# EAGLE library part S10PIN (library jst_eh)
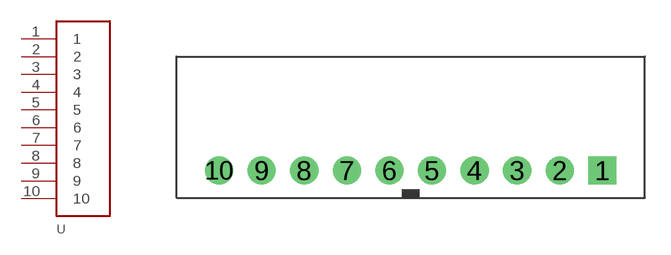
[diagram p14: symbol with the pads of S10B-EH; footprint S10B-EH]

Designator prefix -

## S10PIN  [S10B-EH]
1  1
2  2
3  3
4  4
5  5
6  6
7  7
8  8
9  9
10  10

## Footprint S10B-EH (pad centres in mm)
drill 1.1 square: 1 11.25,0
drill 1.1: 2 8.75,0; 3 6.25,0; 4 3.75,0; 5 1.25,0; 6 -1.25,0; 7 -3.75,0; 8 -6.25,0; 9 -8.75,0; 10 -11.25,0